# Altium schematic symbol library SCH - POWER - TRACO - TEA1-0505E.SCHLIB: 1 symbol
Pins are listed as number, name and electrical type; pins without a type are passive.

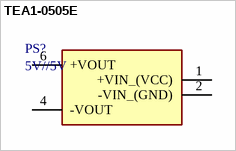
[diagram p0: symbol TEA1-0505E]

## TEA1-0505E
designator PS?, comment 5V//5V
Converter, DC-DC, isolated 1.5kV, 200mA, 5 Vin, 5 Vout
pins: 1 +VIN_(VCC), 2 -VIN_(GND), 4 -VOUT, 6 +VOUT